# EAGLE library part PIC32MX250F128D (library polarinstruments)
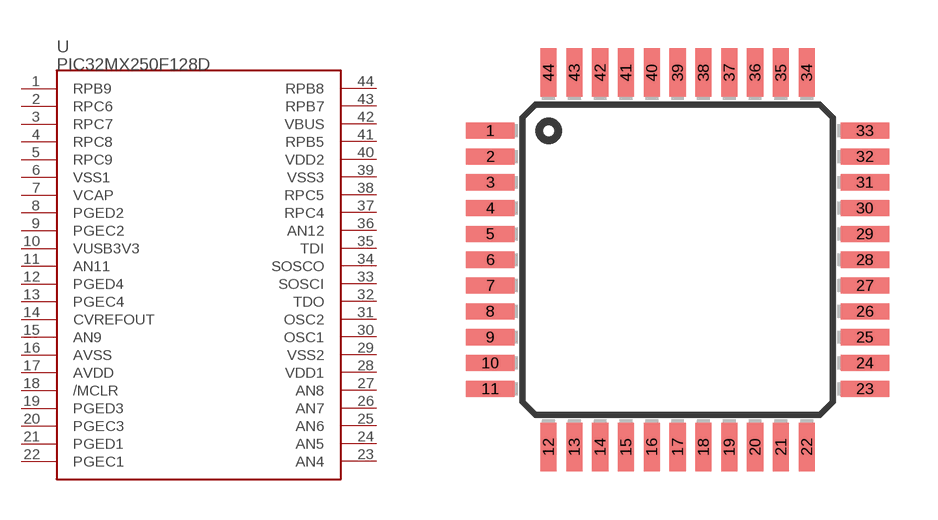
[diagram p0: symbol with the pads of TQFP44; footprint TQFP44]

Designator prefix U

## PIC32MX250F128D  [TQFP44]
1  RPB9
2  RPC6
3  RPC7
4  RPC8
5  RPC9
6  VSS1
7  VCAP
8  PGED2
9  PGEC2
10  VUSB3V3
11  AN11
12  PGED4
13  PGEC4
14  CVREFOUT
15  AN9
16  AVSS
17  AVDD
18  /MCLR
19  PGED3
20  PGEC3
21  PGED1
22  PGEC1
23  AN4
24  AN5
25  AN6
26  AN7
27  AN8
28  VDD1
29  VSS2
30  OSC1
31  OSC2
32  TDO
33  SOSCI
34  SOSCO
35  TDI
36  AN12
37  RPC4
38  RPC5
39  VSS3
40  VDD2
41  RPB5
42  VBUS
43  RPB7
44  RPB8

## Footprint TQFP44 (pad centres in mm)
Thin Quad Flat Pack package type TQ
smd 1.5 x 0.5: 1 -5.8,4; 2 -5.8,3.2; 3 -5.8,2.4; 4 -5.8,1.6; 5 -5.8,0.8; 6 -5.8,0; 7 -5.8,-0.8; 8 -5.8,-1.6; 9 -5.8,-2.4; 10 -5.8,-3.2; 11 -5.8,-4; 23 5.8,-4; 24 5.8,-3.2; 25 5.8,-2.4; 26 5.8,-1.6; 27 5.8,-0.8; 28 5.8,0; 29 5.8,0.8; 30 5.8,1.6; 31 5.8,2.4; 32 5.8,3.2; 33 5.8,4
smd 0.5 x 1.5: 12 -4,-5.8; 13 -3.2,-5.8; 14 -2.4,-5.8; 15 -1.6,-5.8; 16 -0.8,-5.8; 17 0,-5.8; 18 0.8,-5.8; 19 1.6,-5.8; 20 2.4,-5.8; 21 3.2,-5.8; 22 4,-5.8; 34 4,5.8; 35 3.2,5.8; 36 2.4,5.8; 37 1.6,5.8; 38 0.8,5.8; 39 0,5.8; 40 -0.8,5.8; 41 -1.6,5.8; 42 -2.4,5.8; 43 -3.2,5.8; 44 -4,5.8